# EAGLE library part TPD4E1U06DBVR (library TPD4E1U06DBVR)
Quad High Speed ESD Protection SOT-23-6 Texas Instruments TPD4E1U06DBVR Quad Uni-Directional ESD Protection Array, 45W peak, 6-Pin SOT-23 Source: Datasheet <http://www.ti.com/lit/ds/symlink/tpd4e1u06.pdf>
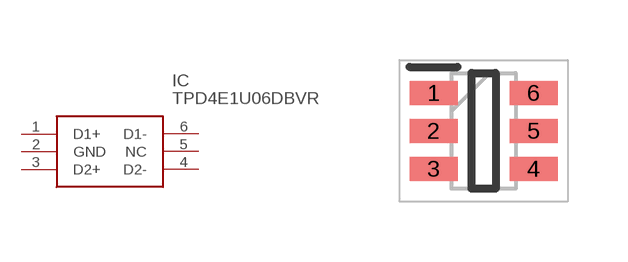
[diagram p0: symbol with the pads of SOT95P280X145-6N; footprint SOT95P280X145-6N]

Designator prefix IC

## TPD4E1U06DBVR (Description: Quad High Speed ESD Protection SOT-23-6 Texas Instruments TPD4E1U06DBVR Quad Uni-Directional ESD Protection Array, 45W peak, 6-Pin SOT-23; Height: 1.45mm; Manufacturer_Name: Texas Instruments; Manufacturer_Part_Number: TPD4E1U06DBVR; Mouser_Part_Number: 595-TPD4E1U06DBVR; Mouser_Price-Stock: https://www.mouser.co.uk/ProductDetail/Texas-Instruments/TPD4E1U06DBVR?qs=%2FCrDlo5IrVMRcCeY4Dk4aQ%3D%3D)  [SOT95P280X145-6N]
1  D1+
2  GND
3  D2+
4  D2-
5  NC  nc
6  D1-

## Footprint SOT95P280X145-6N (pad centres in mm)
DBV0006A
smd 1.2 x 0.6: 1 -1.25,0.95; 2 -1.25,0; 3 -1.25,-0.95; 4 1.25,-0.95; 5 1.25,0; 6 1.25,0.95